# EAGLE library part BAT54DW (library my_ic)
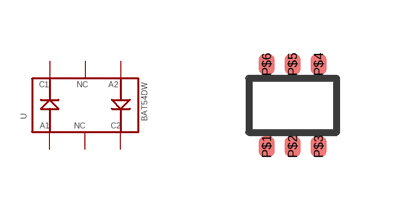
[diagram p4: symbol with the pads of SOT363; footprint SOT363]

Designator prefix -

## BAT54DW  [SOT363]
P$1  A1  pas
P$2  NC  pas
P$3  C2  pas
P$4  A2  pas
P$5  NC  pas
P$6  C1  pas

## Footprint SOT363 (pad centres in mm)
smd 0.4 x 0.525: P$1 -0.65,-1.029; P$2 0,-1.029; P$3 0.65,-1.029; P$4 0.65,1.029; P$5 0,1.029; P$6 -0.65,1.029